# Altium footprint library UZ_per_cb_upgrade.PcbLib: 13 footprints
Each footprint in its own frame and in the unit in brackets; x right, y up, seen from the top. Pads: shape width x height; smd on the part's side, far side on the other; paste and mask are expansions set on the pad; w line width, h text height; cw(c..) or ccw(c..) is an arc to the next point about the centre after c.
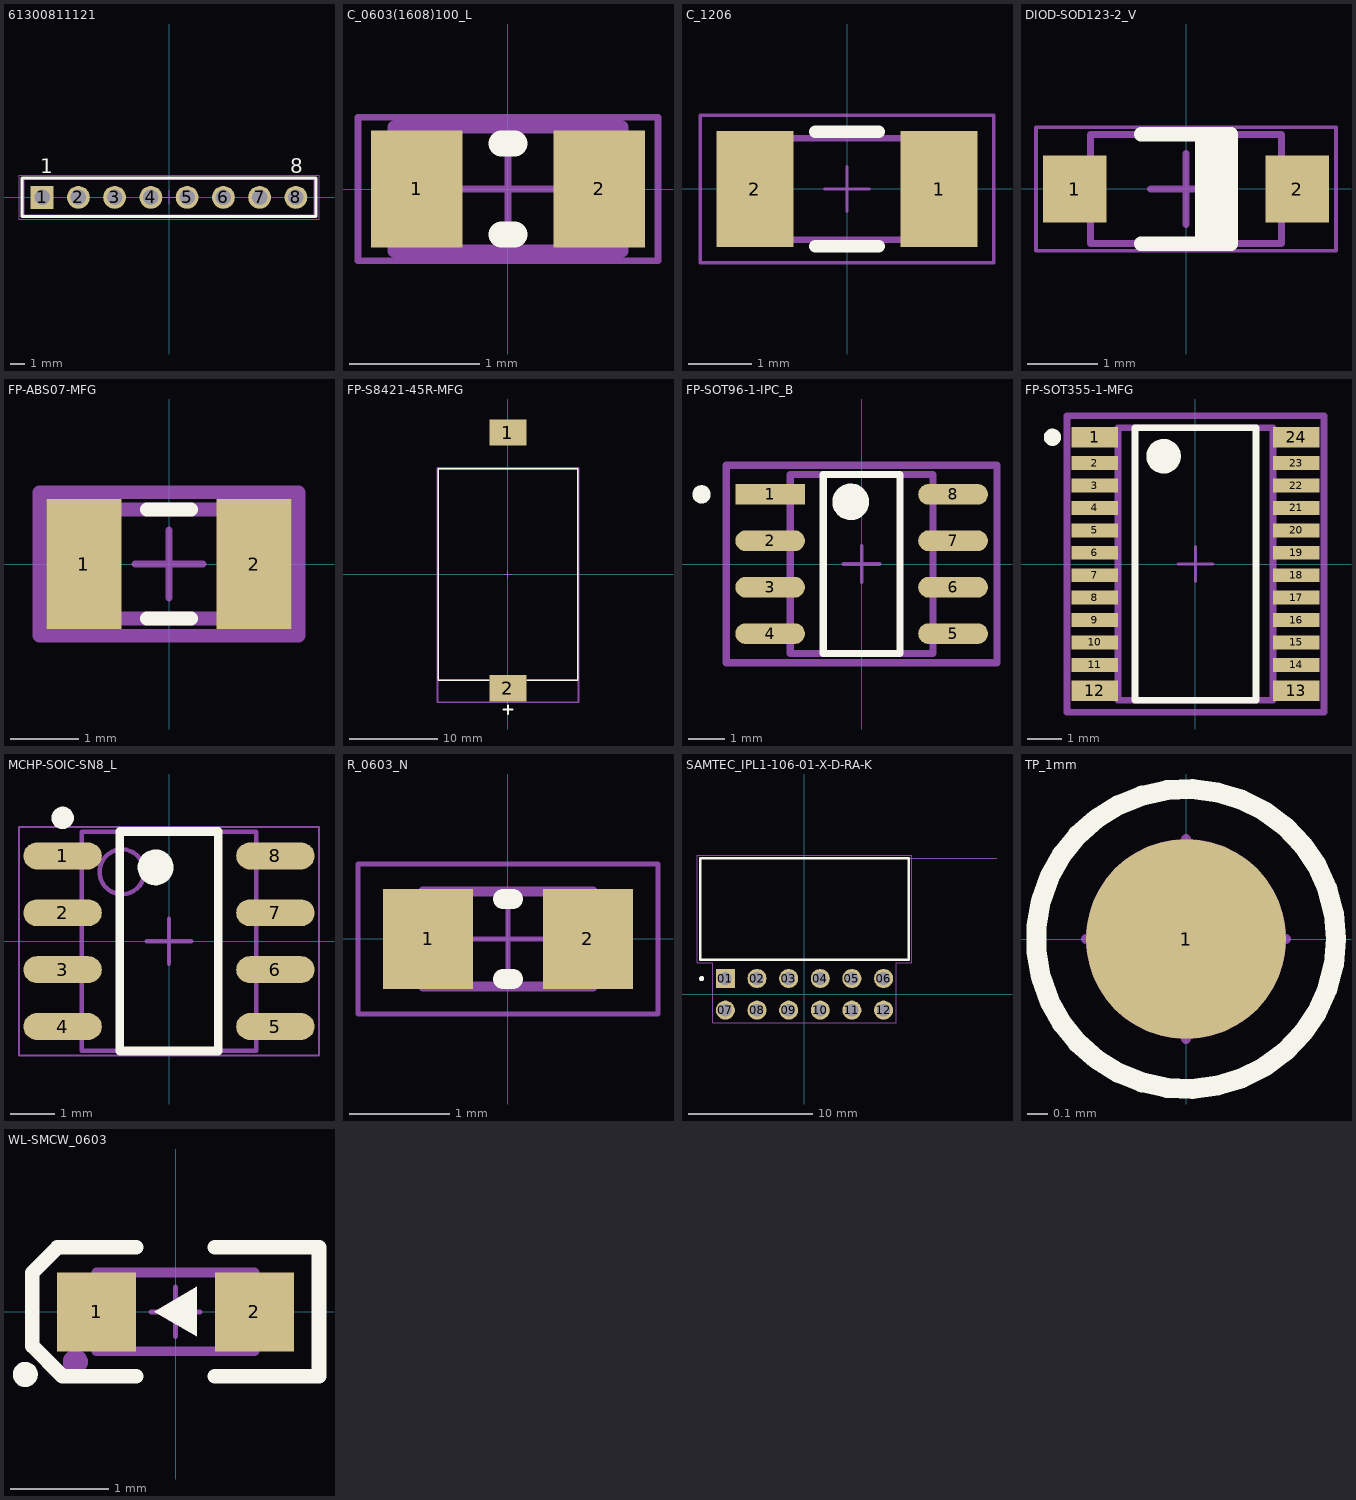
[diagram p0: the footprints below, top view; thin cyan lines are the x and y axes]

## 61300811121 [mm]
pads (8):
  rect 1.6x1.6 hole 1.1: 1(-8.89,0)
  round 1.6 hole 1.1: 2(-6.35,0) 3(-3.81,0) 4(-1.27,0) 5(1.27,0) 6(3.81,0) 7(6.35,0) 8(8.89,0)
Top Overlay:
  lines w0.2: -10.31,-1.345 10.31,-1.345 10.31,1.345 -10.31,1.345 -10.31,-1.345
  text "1" at -9.01,1.7 h1.02
  text "8" at 8.51,1.7 h1.02
Mechanical 13:
  lines w0.1: -10.16,-1.27 -10.16,1.27 10.16,1.27 10.16,-1.27 -10.16,-1.27
Mechanical 15:
  lines w0.05: -0.5,0 0.5,0 ; 0,-0.5 0,0.5 ; -10.51,-1.545 -10.51,1.545 10.51,1.545 10.51,-1.545 -10.51,-1.545
3D body "61300811121.stp": height 8.57, standoff -2.97, extent -10.16,-1.27 10.16,1.27

## C_0603(1608)100_L [mm]
pads (2):
  rect 0.7x0.9 smd: 1(-0.7,0) 2(0.7,0)
Top Overlay:
  lines w0.2: -0.05,-0.35 0.05,-0.35 ; -0.05,0.35 0.05,0.35
Top Assembly:
  lines w0.1: -0.875,-0.475 -0.875,0.475 0.875,0.475 0.875,-0.475 -0.875,-0.475
  text ".Designator" at -2.54,-0.508 h0.5
Mechanical 15:
  lines w0.05: -0.475,0 0.475,0 ; 0,-0.475 0,0.475 ; -1.15,-0.55 -1.15,0.55 1.15,0.55 1.15,-0.55 -1.15,-0.55
3D body "User Library-CapCeramic_Kemet_0603_1608.STEP": height 0.8, standoff 0, extent -0.8,-0.4 0.8,0.4

## C_1206 [mm]
pads (2):
  rect 1.21x1.82 smd: 1(1.45,0) 2(-1.45,0)
Top Overlay:
  lines w0.2: -0.5,-0.9 0.5,-0.9 ; -0.5,0.9 0.5,0.9
Top Assembly:
  lines w0.1: -1.1,-0.8 -1.1,0.8 ; 1.1,-0.8 1.1,0.8 ; -1.6,-0.8 -1.6,0.8 1.6,0.8 1.6,-0.8 -1.6,-0.8
  text ".Designator" at -6.299,-0.838 h1.02
Mechanical 15:
  lines w0.05: -0.35,0 0.35,0 ; 0,-0.35 0,0.35 ; -2.31,-1.16 2.31,-1.16 2.31,1.16 -2.31,1.16 -2.31,-1.16
3D body "User Library-CAPC3216X___CAPC3216X180N.STEP": height 1.82, standoff 0, extent -1.6,-0.81 1.6,0.81

## DIOD-SOD123-2_V [mm]
pads (2):
  rect 0.9x0.95 smd: 1(-1.575,0) 2(1.575,0)
Top Overlay:
  rectangle: 0.127,-0.825 0.635,0.762
  lines w0.2: -0.635,-0.775 0.635,-0.775 0.635,0.775 -0.635,0.775
Mechanical 13:
  lines w0.1: -1.35,-0.775 1.35,-0.775 1.35,0.775 -1.35,0.775 -1.35,-0.775
Mechanical 15:
  lines w0.05: -2.125,-0.875 2.125,-0.875 2.125,0.875 -2.125,0.875 -2.125,-0.875
  lines w0.1: -0.5,0 0.5,0 ; 0,-0.5 0,0.5
3D body: height 1.45, standoff 0, extent -1.35,-0.775 1.35,0.775

## FP-ABS07-MFG [mm]
pads (2):
  rect 1.1x1.9 smd paste+0 mask+0: 1(-1.25,0) 2(1.25,0)
Top Overlay:
  lines w0.2: -0.325,-0.8 0.325,-0.8 ; -0.325,0.8 0.325,0.8
Top 3D Body:
  lines w0.2: -1.65,-0.8 -1.65,0.8 1.65,0.8 1.65,-0.8 -1.65,-0.8
Top Courtyard:
  lines w0.2: -1.9,-1.05 -1.9,1.05 1.9,1.05 1.9,-1.05 -1.9,-1.05
Top Assembly:
  lines w0.2: -1.9,-1.05 -1.9,1.05 1.9,1.05 1.9,-1.05 -1.9,-1.05
  text ".Designator" at 0,0.188 h1
Top Component Center:
  lines w0.1: -0.5,0 0.5,0 ; 0,-0.5 0,0.5
3D body "Crys_Abracon_ABS07-32_768KHz-T_eec.STEP": height 0.25, standoff 0, extent -1.9,-1.05 1.9,1.05

## FP-S8421-45R-MFG [mm]
pads (2):
  rect 4.2x3 smd paste+0 mask+0: 1(0,16.1) 2(0,-12.9)
Top Overlay:
  lines w0.2: -2.175,-11.995 -7.9,-11.995 -7.9,11.995 7.9,11.995 7.9,-11.995 2.175,-11.995 ; -0.5,-15.325 0.5,-15.325 ; 0,-15.825 0,-14.825
Top 3D Body:
  lines w0.2: -7.9,-11.995 -7.9,11.995 7.9,11.995 7.9,-11.995 -7.9,-11.995
Top Courtyard:
  lines w0.2: -8,-14.5 -8,12.095 8,12.095 8,-14.5 -8,-14.5
Top Assembly:
  lines w0.2: -8,-14.5 -8,12.095 8,12.095 8,-14.5 -8,-14.5
  text ".Designator" at 0,-1.015 h1
Top Component Center:
  lines w0.1: -0.5,0 0.5,0 -0.5,0 ; 0,-0.5 0,0.5 0,-0.5
3D body "Batt_Harwin_S8421-45R_eec.STEP": height 0.25, standoff 0, extent -8,-14.5 8,12.095

## FP-SOT96-1-IPC_B [mm]
pads (8):
  rect 1.904x0.568 smd paste+0 mask+0: 1(-2.501,1.905)
  rrect100% 1.904x0.568 smd paste+0 mask+0: 2(-2.501,0.635) 3(-2.501,-0.635) 4(-2.501,-1.905) 5(2.501,-1.905) 6(2.501,-0.635) 7(2.501,0.635) 8(2.501,1.905)
Top Overlay:
  circle w0.25: c-4.378,1.905 r0.125
  circle w0.5: c-0.299,1.7 r0.25
  lines w0.2: -1.049,-2.45 -1.049,2.45 1.049,2.45 1.049,-2.45 -1.049,-2.45
Top 3D Body:
  lines w0.2: -1.95,-2.45 -1.95,2.45 1.95,2.45 1.95,-2.45 -1.95,-2.45
Top Courtyard:
  lines w0.2: -3.703,-2.7 -3.703,2.7 3.703,2.7 3.703,-2.7 -3.703,-2.7
Top Assembly:
  lines w0.2: -3.703,-2.7 -3.703,2.7 3.703,2.7 3.703,-2.7 -3.703,-2.7
  text ".Designator" at 0,0.188 h1
Top Component Center:
  lines w0.1: -0.5,0 0.5,0 ; 0,-0.5 0,0.5
3D body "IC_NXP_PCF8563T-5_518_eec.STEP": height 0.25, standoff 0, extent -3.703,-2.7 3.703,2.7

## FP-SOT355-1-MFG [mm]
pads (24):
  rect 1.35x0.6 smd paste+0 mask+0: 1(-2.925,3.675) 12(-2.925,-3.675) 13(2.925,-3.675) 24(2.925,3.675)
  rect 1.35x0.4 smd paste+0 mask+0: 2(-2.925,2.925) 3(-2.925,2.275) 4(-2.925,1.625) 5(-2.925,0.975) 6(-2.925,0.325) 7(-2.925,-0.325) 8(-2.925,-0.975) 9(-2.925,-1.625) 10(-2.925,-2.275) 11(-2.925,-2.925) 14(2.925,-2.925) 15(2.925,-2.275) 16(2.925,-1.625) 17(2.925,-0.975) 18(2.925,-0.325) 19(2.925,0.325) 20(2.925,0.975) 21(2.925,1.625) 22(2.925,2.275) 23(2.925,2.925)
Top Overlay:
  circle w0.25: c-4.15,3.675 r0.125
  circle w0.5: c-0.925,3.125 r0.25
  lines w0.2: -1.75,-3.95 1.75,-3.95 1.75,3.95 -1.75,3.95 -1.75,-3.95
Top 3D Body:
  lines w0.2: -2.25,-3.95 2.25,-3.95 2.25,3.95 -2.25,3.95 -2.25,-3.95
Top Courtyard:
  lines w0.2: -3.725,-4.3 3.725,-4.3 3.725,4.3 -3.725,4.3 -3.725,-4.3
Top Assembly:
  lines w0.2: -3.725,-4.3 3.725,-4.3 3.725,4.3 -3.725,4.3 -3.725,-4.3
  text ".Designator" at 0,0.188 h1
Top Component Center:
  lines w0.1: -0.5,0 0.5,0 ; 0,-0.5 0,0.5
3D body "IC_NXP_Semiconductors_PCA9535PW_112_eec.STEP": height 0.25, standoff 0, extent -3.725,-4.3 3.725,4.3

## MCHP-SOIC-SN8_L [mm]
pads (8):
  oval 1.75x0.6 smd: 1(-2.375,1.905) 2(-2.375,0.635) 3(-2.375,-0.635) 4(-2.375,-1.905) 5(2.375,-1.905) 6(2.375,-0.635) 7(2.375,0.635) 8(2.375,1.905)
Top Overlay:
  circle w0.25: c-2.375,2.755 r0.125
  circle w0.4: c-0.3,1.65 r0.2
  lines w0.2: -1.1,-2.45 -1.1,2.45 1.1,2.45 1.1,-2.45 -1.1,-2.45
Mechanical 13:
  circle w0.1: c-1.05,1.55 r0.5
  lines w0.1: -1.95,-2.45 -1.95,2.45 1.95,2.45 1.95,-2.45 -1.95,-2.45
Mechanical 15:
  lines w0.05: -3.35,-2.55 -3.35,2.55 3.35,2.55 3.35,-2.55 -3.35,-2.55
  lines w0.1: -0.5,0 0.5,0 ; 0,-0.5 0,0.5
3D body: height 1.75, standoff 0.1, extent -1.95,-2.45 1.95,2.45

## R_0603_N [mm]
pads (2):
  rect 0.9x1 smd: 1(-0.8,0) 2(0.8,0)
Top Overlay:
  lines w0.2: -0.05,-0.4 0.05,-0.4 ; -0.05,0.4 0.05,0.4
Top Assembly:
  lines w0.1: -0.85,-0.475 0.85,-0.475 0.85,0.475 -0.85,0.475 -0.85,-0.475
  text ".Designator" at -2.413,-0.508 h0.5
Mechanical 15:
  lines w0.05: -0.475,0 0.475,0 ; 0,-0.475 0,0.475 ; -1.5,-0.75 -1.5,0.75 1.5,0.75 1.5,-0.75 -1.5,-0.75
3D body "0603-Rchip.step": height 0.44, standoff -0.01, extent -0.8,-0.4 0.8,0.4

## SAMTEC_IPL1-106-01-X-D-RA-K [mm]
pads (12):
  rect 1.53x1.53 hole 1.02: 01(-6.35,1.27)
  round 1.53 hole 1.02: 02(-3.81,1.27) 03(-1.27,1.27) 04(1.27,1.27) 05(3.81,1.27) 06(6.35,1.27) 07(-6.35,-1.27) 08(-3.81,-1.27) 09(-1.27,-1.27) 10(1.27,-1.27) 11(3.81,-1.27) 12(6.35,-1.27)
Top Overlay:
  circle w0.2: c-8.255,1.27 r0.1
  lines w0.2: -8.38,2.79 8.38,2.79 8.38,10.92 -8.38,10.92 -8.38,2.79
Mechanical 13:
  circle w0.2: c-8.255,1.27 r0.1
  lines w0.1: 15.46,10.92 8.38,10.92 ; 8.38,10.92 8.38,2.79 -8.38,2.79 -8.38,10.92 8.38,10.92
Mechanical 15:
  lines w0.05: -8.63,2.54 -8.63,11.17 8.63,11.17 8.63,2.54 7.365,2.54 7.365,-2.285 -7.365,-2.285 -7.365,2.54 -8.63,2.54
3D body "IPL1-106-01-L-D-RA-K.stp": height 8.19, standoff -1.84, extent -8.48,-1.49 8.284,11.02

## TP_1mm [mm]
pads (1):
  round 1 smd paste-1: 1(0,0)
Top Overlay:
  circle w0.1: c0,0 r0.75
  text ".Comment" at 1.2,-0.7 h1.52
Top Assembly:
  circle w0.6: c0,0 r0.2
  text ".Designator" at 0.025,-1.321 h1.02
Mechanical 15:
  circle w0.05: c0,0 r0.75
  lines w0.05: -0.5,0 0.5,0 ; 0,-0.5 0,0.5

## WL-SMCW_0603 [mm]
pads (2):
  rect 0.8x0.8 smd: 1(-0.8,0) 2(0.8,0)
Top Overlay:
  circle w0.127: c-1.524,-0.635 r0.064
  region: -0.217,0.002 0.217,-0.248 0.217,0.252
  lines w0.15: -0.4,-0.654 -1.146,-0.654 -1.454,-0.346 -1.454,0.396 -1.196,0.654 -0.4,0.654 ; 0.4,-0.654 1.454,-0.654 1.454,0.654 0.4,0.654
Top Assembly:
  circle w0.127: c-1.016,-0.508 r0.064
  region: -0.217,0.002 0.217,-0.248 0.217,0.252
  lines w0.1: -0.8,-0.4 0.8,-0.4 0.8,0.4 -0.8,0.4 -0.8,-0.4
  text ".Designator" at -2.413,-0.381 h0.5
Mechanical 15:
  lines w0.05: -0.25,0 0.25,0 ; 0,-0.25 0,0.25
3D body "WL-SMCW_0603_LED.stp": height 0.7, standoff 0, extent -0.8,-0.4 0.8,0.4